# EAGLE library part STM32F051K8U7 (library Microcontroller)
IC MCU 32BIT 64KB FLASH 32UFQFPN Manufacturer's datasheet <https://www.st.com/content/ccc/resource/technical/document/datasheet/55/53/3e/86/29/61/41/d9/DM00039193.pdf/files/DM00039193.pdf/jcr:content/translations/en.DM00039193.pdf>
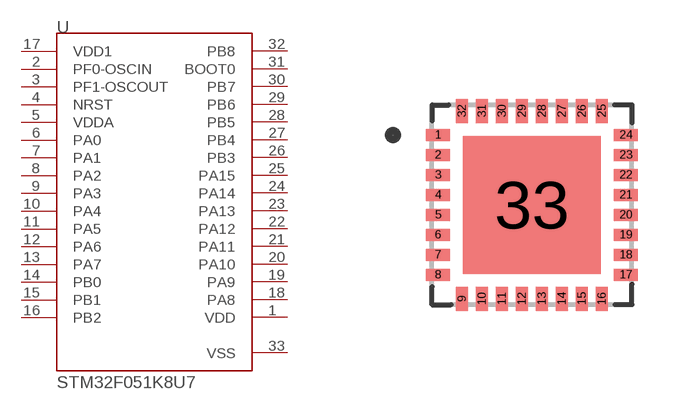
[diagram p21: symbol with the pads of UFQFPN32; footprint UFQFPN32]

Designator prefix U

## STM32F051K8U7 (CREATED_BY: PCBLayout.com; DIGIKEY_PARTNO: 497-17351-ND; MANUFACTURER: STMicroelectronics; MPN: STM32F051K8U7; PACKAGE: 32-UFQFPN)  [UFQFPN32]
1  VDD  pwr
2  PF0-OSCIN
3  PF1-OSCOUT
4  NRST
5  VDDA  pwr
6  PA0
7  PA1
8  PA2
9  PA3
10  PA4
11  PA5
12  PA6
13  PA7
14  PB0
15  PB1
16  PB2
17  VDD1  pwr
18  PA8
19  PA9
20  PA10
21  PA11
22  PA12
23  PA13
24  PA14
25  PA15
26  PB3
27  PB4
28  PB5
29  PB6
30  PB7
31  BOOT0
32  PB8
33  VSS  pwr

## Footprint UFQFPN32 (pad centres in mm)
smd 0.6 x 0.3: 1 -2.35,1.75; 2 -2.35,1.25; 3 -2.35,0.75; 4 -2.35,0.25; 5 -2.35,-0.25; 6 -2.35,-0.75; 7 -2.35,-1.25; 8 -2.35,-1.75; 17 2.35,-1.75; 18 2.35,-1.25; 19 2.35,-0.75; 20 2.35,-0.25; 21 2.35,0.25; 22 2.35,0.75; 23 2.35,1.25; 24 2.35,1.75
smd 0.3 x 0.6: 9 -1.75,-2.35; 10 -1.25,-2.35; 11 -0.75,-2.35; 12 -0.25,-2.35; 13 0.25,-2.35; 14 0.75,-2.35; 15 1.25,-2.35; 16 1.75,-2.35; 25 1.75,2.35; 26 1.25,2.35; 27 0.75,2.35; 28 0.25,2.35; 29 -0.25,2.35; 30 -0.75,2.35; 31 -1.25,2.35; 32 -1.75,2.35
smd 3.45 x 3.45: 33 0,0